# Altium schematic symbol library JST-2.SchLib: 1 symbol
Pins are listed as number, name and electrical type; pins without a type are passive.

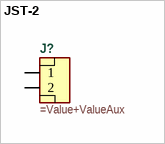
[diagram p0: symbol JST-2]

## JST-2
designator J?
=Description
pins: 1, 2